# EAGLE library part UM6K34N (library mylibrary)
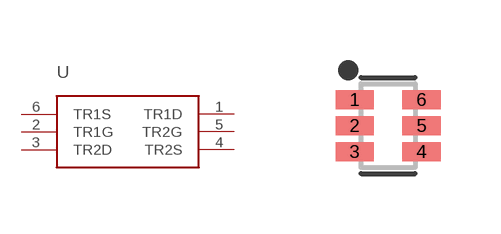
[diagram p4: symbol with the pads of SOTFL65P210X100-6; footprint SOTFL65P210X100-6]

Designator prefix U

## UM6K34NSOT363  [SOTFL65P210X100-6]
1  TR1D
2  TR1G
3  TR2D
4  TR2S
5  TR2G
6  TR1S

## Footprint SOTFL65P210X100-6 (pad centres in mm)
6-SOTFL, 0.65 mm pitch, 2.1 mm span, 2 X 1.25 X 1 mm body 6-pin SOTFL package with 0.65 mm pitch, 2.1 mm span with body size 2 X 1.25 X 1 mm
smd 0.956 x 0.472: 1 -0.836,0.65; 2 -0.836,0; 3 -0.836,-0.65; 4 0.836,-0.65; 5 0.836,0; 6 0.836,0.65